# EAGLE library part LCD_CONNECTOR_40P (library pimoroni-connectors)
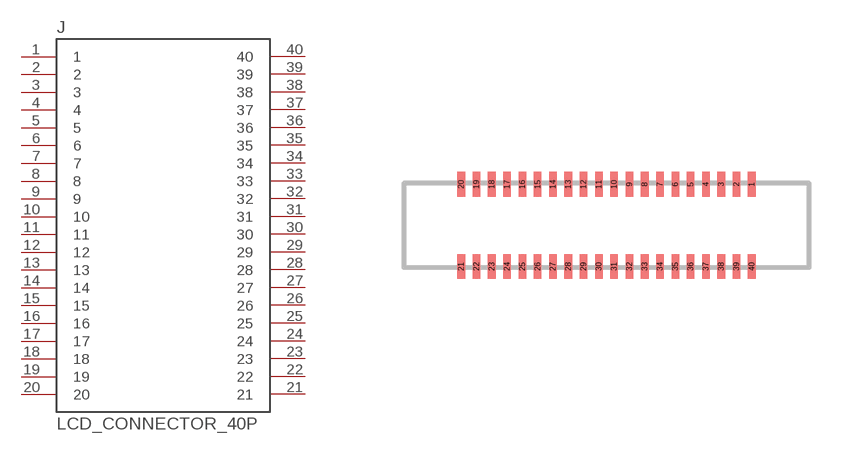
[diagram p19: symbol with the pads of LCD_CONNECTOR_40P; footprint LCD_CONNECTOR_40P]

Designator prefix J

## LCD_CONNECTOR_40P  [LCD_CONNECTOR_40P]
1  1
2  2
3  3
4  4
5  5
6  6
7  7
8  8
9  9
10  10
11  11
12  12
13  13
14  14
15  15
16  16
17  17
18  18
19  19
20  20
21  21
22  22
23  23
24  24
25  25
26  26
27  27
28  28
29  29
30  30
31  31
32  32
33  33
34  34
35  35
36  36
37  37
38  38
39  39
40  40

## Footprint LCD_CONNECTOR_40P (pad centres in mm)
smd 0.2 x 0.65: 1 3.8,1.075; 2 3.4,1.075; 3 3,1.075; 4 2.6,1.075; 5 2.2,1.075; 6 1.8,1.075; 7 1.4,1.075; 8 1,1.075; 9 0.6,1.075; 10 0.2,1.075; 11 -0.2,1.075; 12 -0.6,1.075; 13 -1,1.075; 14 -1.4,1.075; 15 -1.8,1.075; 16 -2.2,1.075; 17 -2.6,1.075; 18 -3,1.075; 19 -3.4,1.075; 20 -3.8,1.075; 21 -3.8,-1.075; 22 -3.4,-1.075; 23 -3,-1.075; 24 -2.6,-1.075; 25 -2.2,-1.075; 26 -1.8,-1.075; 27 -1.4,-1.075; 28 -1,-1.075; 29 -0.6,-1.075; 30 -0.2,-1.075; 31 0.2,-1.075; 32 0.6,-1.075; 33 1,-1.075; 34 1.4,-1.075; 35 1.8,-1.075; 36 2.2,-1.075; 37 2.6,-1.075; 38 3,-1.075; 39 3.4,-1.075; 40 3.8,-1.075